# EAGLE library part HMC5843 (library HMC5843)
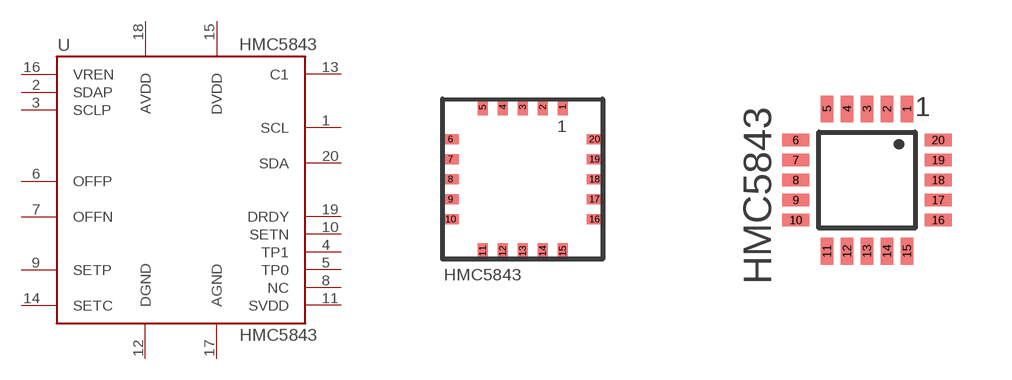
[diagram p0: symbol with the pads of HMC5843; footprints HMC5843, HMC5843_PATRON_RECOMENDADO]

Designator prefix -

## HMC5843  [HMC5843]
1  SCL
2  SDAP  pwr
3  SCLP  pwr
4  TP1  nc
5  TP0  nc
6  OFFP  nc
7  OFFN  nc
8  NC  nc
9  SETP  in
10  SETN  nc
11  SVDD  nc
12  DGND  pwr
13  C1  pwr
14  SETC  in
15  DVDD  pwr
16  VREN  pwr
17  AGND  pwr
18  AVDD  pwr
19  DRDY  nc
20  SDA

## HMC5843.  [HMC5843_PATRON_RECOMENDADO]
Pads as for HMC5843

## Footprint HMC5843 (pad centres in mm)
smd 0.25 x 0.4: 1 1,1.8; 2 0.5,1.8; 3 0,1.8; 4 -0.5,1.8; 5 -1,1.8; 11 -1,-1.8; 12 -0.5,-1.8; 13 0,-1.8; 14 0.5,-1.8; 15 1,-1.8
smd 0.4 x 0.25: 6 -1.8,1; 7 -1.8,0.5; 8 -1.8,0; 9 -1.8,-0.5; 10 -1.8,-1; 16 1.8,-1; 17 1.8,-0.5; 18 1.8,0; 19 1.8,0.5; 20 1.8,1

## Footprint HMC5843_PATRON_RECOMENDADO (pad centres in mm)
smd 0.31 x 0.67: 1 1,1.78; 2 0.5,1.78; 3 0,1.78; 4 -0.5,1.78; 5 -1,1.78; 11 -1,-1.78; 12 -0.5,-1.78; 13 0,-1.78; 14 0.5,-1.78; 15 1,-1.78
smd 0.67 x 0.31: 6 -1.78,1; 7 -1.78,0.5; 8 -1.78,0; 9 -1.78,-0.5; 10 -1.78,-1; 16 1.78,-1; 17 1.78,-0.5; 18 1.78,0; 19 1.78,0.5; 20 1.78,1